# Altium footprint library OLED_1.3_SPI_SHIELD_CUT.PcbLib: 1 footprints
Each footprint in its own frame and in the unit in brackets; x right, y up, seen from the top. Pads: shape width x height; smd on the part's side, far side on the other; paste and mask are expansions set on the pad; w line width, h text height; cw(c..) or ccw(c..) is an arc to the next point about the centre after c.
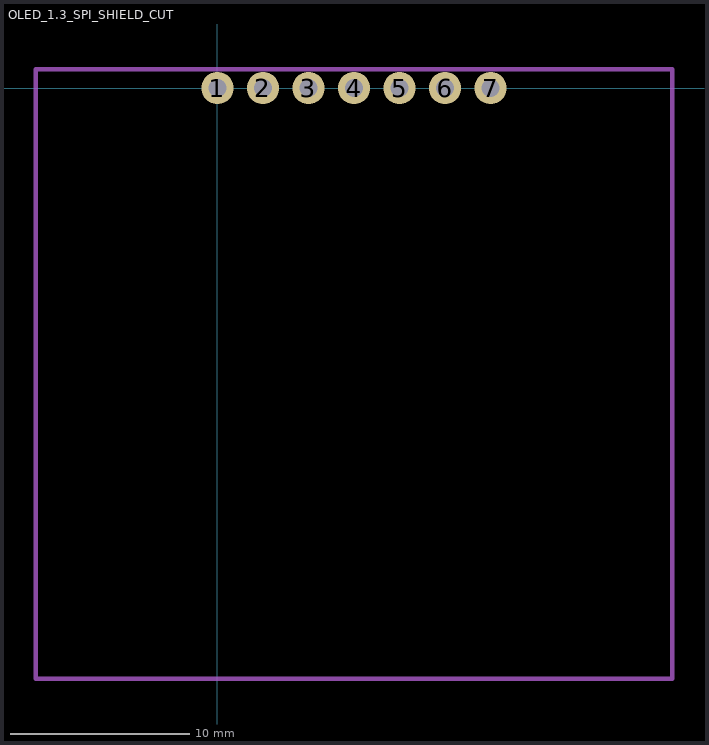
[diagram p0: the footprint, top view; thin cyan lines are the x and y axes]

## OLED_1.3_SPI_SHIELD_CUT [mm]
pads (7):
  round 1.8 hole 1: 1(0,0) 2(2.54,0) 3(5.08,0) 4(7.62,0) 5(10.16,0) 6(12.7,0) 7(15.24,0)
TopAssy:
  lines w0.254: -10.13,-32.95 25.37,-32.95 25.37,1.05 -10.13,1.05 -10.13,-32.95
3D body "OLED_CUT.STEP": height 5.65, standoff -5.89, extent -10.1,-32.979 25.4,1